# EAGLE library part SCREEN (library Hlibok_PCB)
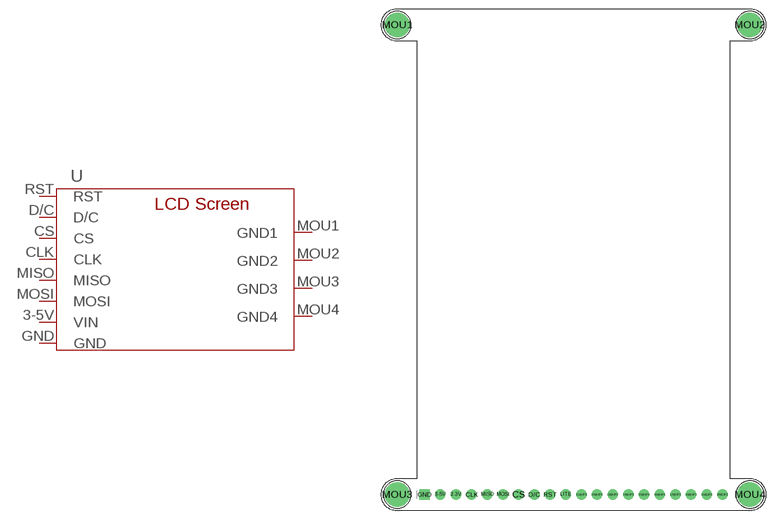
[diagram p1: symbol with the pads of SCREEN; footprint SCREEN]

Designator prefix -

## SCREEN  [SCREEN]
3-5V  VIN
CLK  CLK
CS  CS
D/C  D/C
GND  GND
MISO  MISO
MOSI  MOSI
MOU1  GND1
MOU2  GND2
MOU3  GND3
MOU4  GND4
RST  RST

## Footprint SCREEN (pad centres in mm)
Package generated by make-group2pac.ulp from: C:/Users/brend/Downloads/Adafruit 2.8 inch TFT w Capacitive Touch.brd at: 12/10/2023 8:44 PM
drill 1 pad 1.676: 3-5V -21.59,-38.1; 3.3V -19.05,-38.1; 11@JP2 1.27,-38.1; 12@JP2 3.81,-38.1; 13@JP2 6.35,-38.1; 14@JP2 8.89,-38.1; 15@JP2 11.43,-38.1; 16@JP2 13.97,-38.1; 17@JP2 16.51,-38.1; 18@JP2 19.05,-38.1; 19@JP2 21.59,-38.1; 20@JP2 24.13,-38.1; CLK -16.51,-38.1; CS -8.89,-38.1; D/C -6.35,-38.1; LITE -1.27,-38.1; MISO -13.97,-38.1; MOSI -11.43,-38.1; RST -3.81,-38.1
drill 1 pad 1.676 square: GND -24.13,-38.1
drill 3 pad 3.6: MOU1 -28.575,38.1; MOU2 28.575,38.1; MOU3 -28.575,-38.1; MOU4 28.575,-38.1